# EAGLE library part ETH_CORE_18F97J60_A (library 000001)
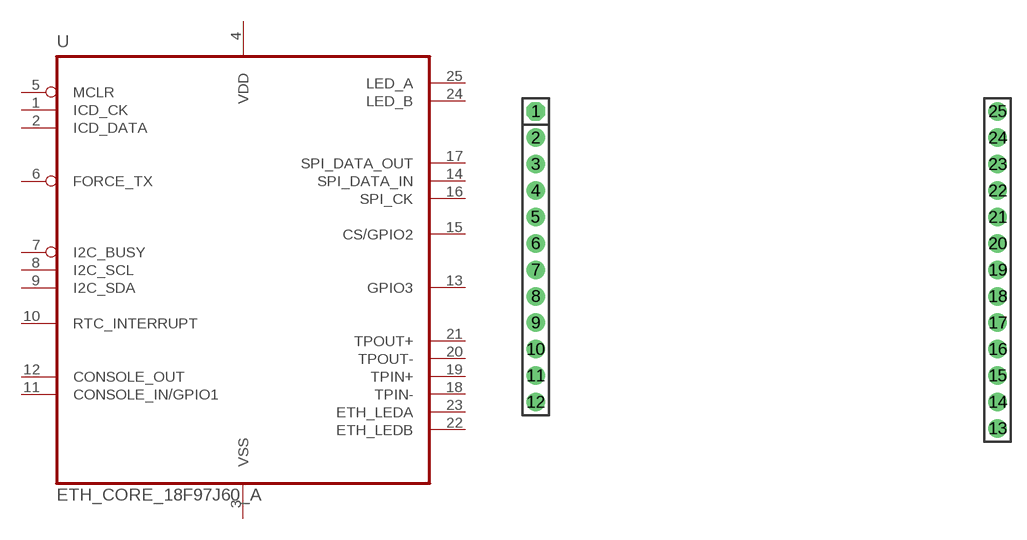
[diagram p94: symbol with the pads of ETH_CORE_18F97J60_A; footprint ETH_CORE_18F97J60_A]

Designator prefix -

## ETH_CORE_18F97J60_A  [ETH_CORE_18F97J60_A]
1  ICD_CK
2  ICD_DATA
3  VSS  pwr
4  VDD  pwr
5  MCLR
6  FORCE_TX
7  I2C_BUSY
8  I2C_SCL
9  I2C_SDA
10  RTC_INTERRUPT
11  CONSOLE_IN/GPIO1
12  CONSOLE_OUT
13  GPIO3
14  SPI_DATA_IN
15  CS/GPIO2
16  SPI_CK
17  SPI_DATA_OUT
18  TPIN-
19  TPIN+
20  TPOUT-
21  TPOUT+
22  ETH_LEDB
23  ETH_LEDA
24  LED_B
25  LED_A

## Footprint ETH_CORE_18F97J60_A (pad centres in mm)
drill 0.5 pad 1.778 octagon: 1 -21.907,16.828
drill 0.5 pad 1.778 round: 2 -21.907,14.287; 3 -21.907,11.748; 4 -21.907,9.207; 5 -21.907,6.668; 6 -21.907,4.128; 7 -21.907,1.587; 8 -21.907,-0.953; 9 -21.907,-3.493; 10 -21.907,-6.032; 11 -21.907,-8.572; 12 -21.907,-11.113; 13 22.543,-13.652; 14 22.543,-11.113; 15 22.543,-8.572; 16 22.543,-6.032; 17 22.543,-3.493; 18 22.543,-0.953; 19 22.543,1.587; 20 22.543,4.128; 21 22.543,6.668; 22 22.543,9.207; 23 22.543,11.748; 24 22.543,14.287; 25 22.543,16.828